# Altium footprint library AN7002Q_PCBLIB_241119v3.PcbLib: 3 footprints
Each footprint in its own frame and in the unit in brackets; x right, y up, seen from the top. Pads: shape width x height; smd on the part's side, far side on the other; paste and mask are expansions set on the pad; w line width, h text height; cw(c..) or ccw(c..) is an arc to the next point about the centre after c.
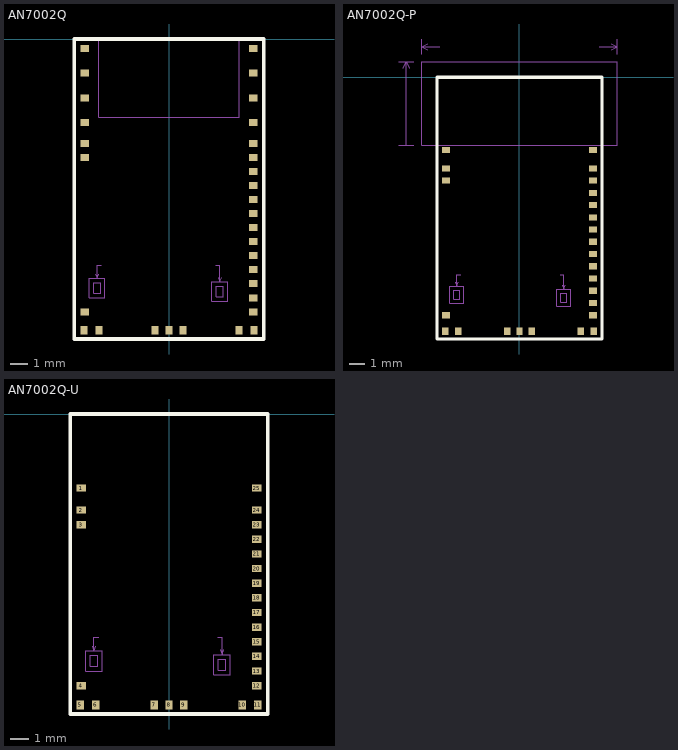
[diagram p0: the footprints below, top view; thin cyan lines are the x and y axes]

## AN7002Q [mm]
pads (31):
  rect 0.5x0.4 smd mask+0.025: 1(-4.8,-4.75) 2(-4.8,-5.95) 3(-4.8,-6.75) 4(-4.8,-15.55) 12(4.8,-15.55) 13(4.8,-14.75) 14(4.8,-13.95) 15(4.8,-13.15) 16(4.8,-12.35) 17(4.8,-11.55) 18(4.8,-10.75) 19(4.8,-9.95) 20(4.8,-9.15) 21(4.8,-8.35) 22(4.8,-7.55) 23(4.8,-6.75) 24(4.8,-5.95) 25(4.8,-4.75) 26(4.8,-3.35) 27(4.8,-1.95) 28(4.8,-0.55) 29(-4.8,-0.55) 30(-4.8,-1.95) 31(-4.8,-3.35)
  rect 0.4x0.5 smd mask+0.025: 5(-4.85,-16.6) 6(-4,-16.6) 7(-0.8,-16.6) 8(0,-16.6) 9(0.8,-16.6) 10(4,-16.6) 11(4.85,-16.6)
TopOverlay:
  lines w0.2: -5.4,-17.1 5.4,-17.1 5.4,0 0,0 -5.4,0 -5.4,-17.1
Mechanical2:
  lines w0.03: -4,-4.45 -4,0 4,0 4,-4.45 -4,-4.45
  text "No ground pad" at -2.425,-2.65 h0.4
Mechanical3:
  lines w0.01: -4.2,-13.4 -4.101,-13.65 ; -4,-13.4 -4.099,-13.65 -4.1,-12.9 -3.85,-12.9 ; 2.675,-12.9 2.9,-12.9 2.9,-13.85 2.8,-13.6 ; 2.901,-13.85 3,-13.6 ; -4.55,-14.75 -4.55,-13.65 -3.65,-13.65 -3.65,-14.75 -4.55,-14.75 ; -4.3,-14.5 -3.9,-14.5 -3.9,-13.9 -4.3,-13.9 -4.3,-14.5 ; 2.45,-14.95 3.35,-14.95 3.35,-13.85 2.45,-13.85 2.45,-14.95 ; 2.7,-14.7 2.7,-14.1 3.1,-14.1 3.1,-14.7 2.7,-14.7
  text "Toplayer no ground pad" at -3.6,-13 h0.28

## AN7002Q-P [mm]
pads (25):
  rect 0.5x0.4 smd mask+0.025: 1(-4.8,-4.75) 2(-4.8,-5.95) 3(-4.8,-6.75) 4(-4.8,-15.55) 12(4.8,-15.55) 13(4.8,-14.75) 14(4.8,-13.95) 15(4.8,-13.15) 16(4.8,-12.35) 17(4.8,-11.55) 18(4.8,-10.75) 19(4.8,-9.95) 20(4.8,-9.15) 21(4.8,-8.35) 22(4.8,-7.55) 23(4.8,-6.75) 24(4.8,-5.95) 25(4.8,-4.75)
  rect 0.4x0.5 smd mask+0.025: 5(-4.85,-16.6) 6(-4,-16.6) 7(-0.8,-16.6) 8(0,-16.6) 9(0.8,-16.6) 10(4,-16.6) 11(4.85,-16.6)
TopOverlay:
  lines w0.2: -5.4,-17.1 -5.4,0 0,0 5.4,0 5.4,-17.1 -5.4,-17.1
Mechanical2:
  lines w0.03: -7.9,-4.45 -6.9,-4.45 ; -7.9,1 -6.9,1 ; -7.6,0.6 -7.4,1 ; -7.4,-4.45 -7.4,1 ; -7.2,0.6 -7.4,1 ; -6.4,1.5 -6.4,2.5 ; -6,1.8 -6.4,2 ; -6,2.2 -6.4,2 ; -5.2,2 -6.4,2 ; 5.2,2 6.4,2 ; 6,1.8 6.4,2 ; 6,2.2 6.4,2 ; 6.4,1.5 6.4,2.5 ; -6.4,-4.45 6.4,-4.45 6.4,1 -6.4,1 -6.4,-4.45
  text "No ground pad" at -2.54,-2.54 h0.4
  text "as wide as possible" at -3.95,1.825 h0.45
  text "as wide as possible" at -8.278,-6.096 h0.45
Mechanical3:
  lines w0.01: -4.2,-13.4 -4.101,-13.65 ; -4,-13.4 -4.099,-13.65 -4.1,-12.9 -3.85,-12.9 ; 2.675,-12.9 2.9,-12.9 2.9,-13.85 2.8,-13.6 ; 2.901,-13.85 3,-13.6 ; -4.55,-14.75 -4.55,-13.65 -3.65,-13.65 -3.65,-14.75 -4.55,-14.75 ; -4.3,-14.5 -3.9,-14.5 -3.9,-13.9 -4.3,-13.9 -4.3,-14.5 ; 2.45,-14.95 2.45,-13.85 3.35,-13.85 3.35,-14.95 2.45,-14.95 ; 2.7,-14.7 2.7,-14.1 3.1,-14.1 3.1,-14.7 2.7,-14.7
  text "Toplayer no ground pad" at -3.6,-13 h0.28

## AN7002Q-U [mm]
pads (25):
  rect 0.5x0.4 smd mask+0.025: 1(-4.8,-4.05) 2(-4.8,-5.25) 3(-4.8,-6.05) 4(-4.8,-14.85) 12(4.8,-14.85) 13(4.8,-14.05) 14(4.8,-13.25) 15(4.8,-12.45) 16(4.8,-11.65) 17(4.8,-10.85) 18(4.8,-10.05) 19(4.8,-9.25) 20(4.8,-8.45) 21(4.8,-7.65) 22(4.8,-6.85) 23(4.8,-6.05) 24(4.8,-5.25) 25(4.8,-4.05)
  rect 0.4x0.5 smd mask+0.025: 5(-4.85,-15.9) 6(-4,-15.9) 7(-0.8,-15.9) 8(0,-15.9) 9(0.8,-15.9) 10(4,-15.9) 11(4.85,-15.9)
TopOverlay:
  lines w0.2: -5.4,-16.4 -5.4,0 0,0 5.4,0 5.4,-16.4 -5.4,-16.4
Mechanical3:
  lines w0.01: -4.2,-12.7 -4.101,-12.95 ; -4,-12.7 -4.099,-12.95 -4.1,-12.2 -3.85,-12.2 ; 2.675,-12.2 2.9,-12.2 2.9,-13.15 2.8,-12.9 ; 2.901,-13.15 3,-12.9 ; -4.55,-14.05 -4.55,-12.95 -3.65,-12.95 -3.65,-14.05 -4.55,-14.05 ; -4.3,-13.8 -3.9,-13.8 -3.9,-13.2 -4.3,-13.2 -4.3,-13.8 ; 2.45,-14.25 3.35,-14.25 3.35,-13.15 2.45,-13.15 2.45,-14.25 ; 2.7,-14 3.1,-14 3.1,-13.4 2.7,-13.4 2.7,-14
  text "Toplayer no ground pad" at -3.6,-12.3 h0.28